# Altium integrated library ATMEGA2560-16AU.IntLib: 1 symbol
Pins are listed as number, name and electrical type; pins without a type are passive.

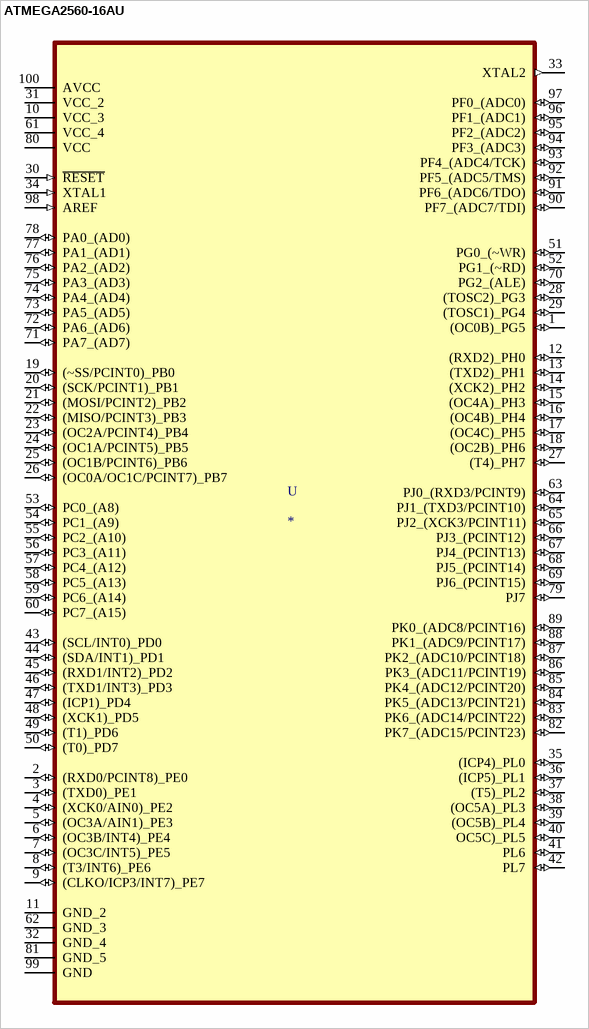
[diagram p0: symbol ATMEGA2560-16AU]

## ATMEGA2560-16AU
designator U
AVR AVRÂ® ATmega Microcontroller IC 8-Bit 16MHz 256KB _128K x 16_ FLASH 100-TQFP _14x14_; MF: Microchip; MP: ATMEGA2560-16AU; Package: TQFP-100 Adesto Technologies; Price: None; Availability: Unavailable; SnapEDA_Link: https://www.snapeda.com/parts/ATMEGA2560-16AU/Microchip/view-part/54180/?ref=snap; Value: *
footprint QFP50P1600X1600X120-100N
pins: 1 (OC0B)_PG5 (io), 2 (RXD0/PCINT8)_PE0 (io), 3 (TXD0)_PE1 (io), 4 (XCK0/AIN0)_PE2 (io), 5 (OC3A/AIN1)_PE3 (io), 6 (OC3B/INT4)_PE4 (io), 7 (OC3C/INT5)_PE5 (io), 8 (T3/INT6)_PE6 (io), 9 (CLKO/ICP3/INT7)_PE7 (io), 10 VCC_3 (power), 11 GND_2, 12 (RXD2)_PH0 (io), 13 (TXD2)_PH1 (io), 14 (XCK2)_PH2 (io), 15 (OC4A)_PH3 (io), 16 (OC4B)_PH4 (io), 17 (OC4C)_PH5 (io), 18 (OC2B)_PH6 (io), 19 (~SS/PCINT0)_PB0 (io), 20 (SCK/PCINT1)_PB1 (io), 21 (MOSI/PCINT2)_PB2 (io), 22 (MISO/PCINT3)_PB3 (io), 23 (OC2A/PCINT4)_PB4 (io), 24 (OC1A/PCINT5)_PB5 (io), 25 (OC1B/PCINT6)_PB6 (io), 26 (OC0A/OC1C/PCINT7)_PB7 (io), 27 (T4)_PH7 (io), 28 (TOSC2)_PG3 (io), 29 (TOSC1)_PG4 (io), 30 ~{RESET} (in), 31 VCC_2 (power), 32 GND_4, 33 XTAL2 (out), 34 XTAL1 (in), 35 (ICP4)_PL0 (io), 36 (ICP5)_PL1 (io), 37 (T5)_PL2 (io), 38 (OC5A)_PL3 (io), 39 (OC5B)_PL4 (io), 40 OC5C)_PL5 (io), 41 PL6 (io), 42 PL7 (io), 43 (SCL/INT0)_PD0 (io), 44 (SDA/INT1)_PD1 (io), 45 (RXD1/INT2)_PD2 (io), 46 (TXD1/INT3)_PD3 (io), 47 (ICP1)_PD4 (io), 48 (XCK1)_PD5 (io), 49 (T1)_PD6 (io), 50 (T0)_PD7 (io), 51 PG0_(~WR) (io), 52 PG1_(~RD) (io), 53 PC0_(A8) (io), 54 PC1_(A9) (io), 55 PC2_(A10) (io), 56 PC3_(A11) (io), 57 PC4_(A12) (io), 58 PC5_(A13) (io), 59 PC6_(A14) (io), 60 PC7_(A15) (io), 61 VCC_4 (power), 62 GND_3, 63 PJ0_(RXD3/PCINT9) (io), 64 PJ1_(TXD3/PCINT10) (io), 65 PJ2_(XCK3/PCINT11) (io), 66 PJ3_(PCINT12) (io), 67 PJ4_(PCINT13) (io), 68 PJ5_(PCINT14) (io), 69 PJ6_(PCINT15) (io), 70 PG2_(ALE) (io), 71 PA7_(AD7) (io), 72 PA6_(AD6) (io), 73 PA5_(AD5) (io), 74 PA4_(AD4) (io), 75 PA3_(AD3) (io), 76 PA2_(AD2) (io), 77 PA1_(AD1) (io), 78 PA0_(AD0) (io), 79 PJ7 (io), 80 VCC (power), 81 GND_5, 82 PK7_(ADC15/PCINT23) (io), 83 PK6_(ADC14/PCINT22) (io), 84 PK5_(ADC13/PCINT21) (io), 85 PK4_(ADC12/PCINT20) (io), 86 PK3_(ADC11/PCINT19) (io), 87 PK2_(ADC10/PCINT18) (io), 88 PK1_(ADC9/PCINT17) (io), 89 PK0_(ADC8/PCINT16) (io), 90 PF7_(ADC7/TDI) (io), 91 PF6_(ADC6/TDO) (io), 92 PF5_(ADC5/TMS) (io), 93 PF4_(ADC4/TCK) (io), 94 PF3_(ADC3) (io), 95 PF2_(ADC2) (io), 96 PF1_(ADC1) (io), 97 PF0_(ADC0) (io), 98 AREF (in), 99 GND, 100 AVCC (power)